# Altium footprint library ADC1175-50CIMTXNOPB.PcbLib: 3 footprints
Each footprint in its own frame and in the unit in brackets; x right, y up, seen from the top. Pads: shape width x height; smd on the part's side, far side on the other; paste and mask are expansions set on the pad; w line width, h text height; cw(c..) or ccw(c..) is an arc to the next point about the centre after c.
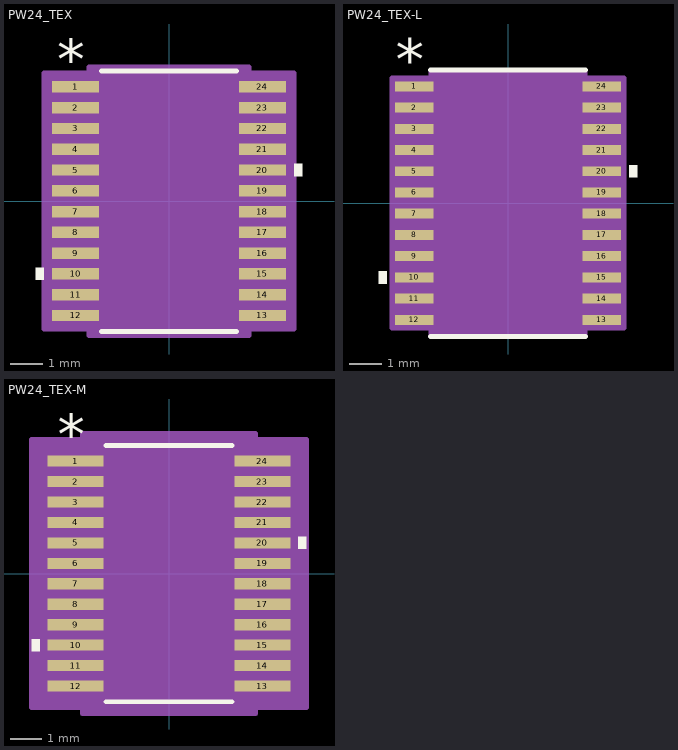
[diagram p0: the footprints below, top view; thin cyan lines are the x and y axes]

## PW24_TEX [mil]
pads (24):
  rect 58x14 smd paste+0 mask+0: 1(-115,140.75) 2(-115,115.16) 3(-115,89.57) 4(-115,63.98) 5(-115,38.39) 6(-115,12.8) 7(-115,-12.8) 8(-115,-38.39) 9(-115,-63.98) 10(-115,-89.57) 11(-115,-115.16) 12(-115,-140.75) 13(115,-140.75) 14(115,-115.16) 15(115,-89.57) 16(115,-63.98) 17(115,-38.39) 18(115,-12.8) 19(115,12.8) 20(115,38.39) 21(115,63.98) 22(115,89.57) 23(115,115.16) 24(115,140.75)
Top Overlay:
  region: -154,-82.07 -164,-82.07 -164,-97.07 -154,-97.07
  region: 154,45.89 164,45.89 164,30.89 154,30.89
  lines w6: -83,-160.5 83,-160.5 ; -83,160.5 83,160.5
  text "*" at -137.5,149.75 h50
  text ".Designator" at -137.5,-25 h50
Mechanical 13:
  lines w1: -12,155.5 ccw(c0,155.5) 12,155.5 ; -130,-146.75 -130,-134.75 -88.5,-134.75 -88.5,-146.75 -130,-146.75 ; -130,-121.16 -130,-109.16 -88.5,-109.16 -88.5,-121.16 -130,-121.16 ; -130,-95.57 -130,-83.57 -88.5,-83.57 -88.5,-95.57 -130,-95.57 ; -130,-69.98 -130,-57.98 -88.5,-57.98 -88.5,-69.98 -130,-69.98 ; -130,-44.39 -130,-32.39 -88.5,-32.39 -88.5,-44.39 -130,-44.39 ; -130,-18.8 -130,-6.8 -88.5,-6.8 -88.5,-18.8 -130,-18.8 ; -130,6.8 -130,18.8 -88.5,18.8 -88.5,6.8 -130,6.8 ; -130,32.39 -130,44.39 -88.5,44.39 -88.5,32.39 -130,32.39 ; -130,57.98 -130,69.98 -88.5,69.98 -88.5,57.98 -130,57.98 ; -130,83.57 -130,95.57 -88.5,95.57 -88.5,83.57 -130,83.57 ; -130,109.16 -130,121.16 -88.5,121.16 -88.5,109.16 -130,109.16 ; -130,134.75 -130,146.75 -88.5,146.75 -88.5,134.75 -130,134.75 ; -88.5,-155.5 88.5,-155.5 88.5,155.5 -88.5,155.5 -88.5,-155.5 ; 88.5,-146.75 88.5,-134.75 130,-134.75 130,-146.75 88.5,-146.75 ; 88.5,-121.16 88.5,-109.16 130,-109.16 130,-121.16 88.5,-121.16 ; 88.5,-95.57 88.5,-83.57 130,-83.57 130,-95.57 88.5,-95.57 ; 88.5,-69.98 88.5,-57.98 130,-57.98 130,-69.98 88.5,-69.98 ; 88.5,-44.39 88.5,-32.39 130,-32.39 130,-44.39 88.5,-44.39 ; 88.5,-18.8 88.5,-6.8 130,-6.8 130,-18.8 88.5,-18.8 ; 88.5,6.8 88.5,18.8 130,18.8 130,6.8 88.5,6.8 ; 88.5,32.39 88.5,44.39 130,44.39 130,32.39 88.5,32.39 ; 88.5,57.98 88.5,69.98 130,69.98 130,57.98 88.5,57.98 ; 88.5,83.57 88.5,95.57 130,95.57 130,83.57 88.5,83.57 ; 88.5,109.16 88.5,121.16 130,121.16 130,109.16 88.5,109.16 ; 88.5,134.75 88.5,146.75 130,146.75 130,134.75 88.5,134.75
  text ".Designator" at -137.5,-25 h50
  text "*" at -86,102.5 h50
Mechanical 15:
  region: -98.5,-157.75 -154,-157.75 -154,157.75 -98.5,157.75 -98.5,165.5 98.5,165.5 98.5,157.75 154,157.75 154,-157.75 98.5,-157.75 98.5,-165.5 -98.5,-165.5
  lines w6: -154,-157.75 -154,157.75 -98.5,157.75 -98.5,165.5 98.5,165.5 98.5,157.75 154,157.75 154,-157.75 98.5,-157.75 98.5,-165.5 -98.5,-165.5 -98.5,-157.75 -154,-157.75
3D body "PW24_TEX.step": height 47.09, standoff 0, extent -130,-155.51 130,155.51

## PW24_TEX-L [mil]
pads (24):
  rect 46x12 smd paste+0 mask+0: 1(-113,140.75) 2(-113,115.16) 3(-113,89.57) 4(-113,63.98) 5(-113,38.39) 6(-113,12.8) 7(-113,-12.8) 8(-113,-38.39) 9(-113,-63.98) 10(-113,-89.57) 11(-113,-115.16) 12(-113,-140.75) 13(113,-140.75) 14(113,-115.16) 15(113,-89.57) 16(113,-63.98) 17(113,-38.39) 18(113,-12.8) 19(113,12.8) 20(113,38.39) 21(113,63.98) 22(113,89.57) 23(113,115.16) 24(113,140.75)
Top Overlay:
  region: -146,-82.07 -156,-82.07 -156,-97.07 -146,-97.07
  region: 146,45.89 156,45.89 156,30.89 146,30.89
  lines w6: -93.5,-160.5 93.5,-160.5 ; -93.5,160.5 93.5,160.5
  text "*" at -135.5,147.75 h50
  text ".Designator" at -137.5,-25 h50
Mechanical 13:
  lines w1: -12,155.5 ccw(c0,155.5) 12,155.5 ; -130,-146.75 -130,-134.75 -88.5,-134.75 -88.5,-146.75 -130,-146.75 ; -130,-121.16 -130,-109.16 -88.5,-109.16 -88.5,-121.16 -130,-121.16 ; -130,-95.57 -130,-83.57 -88.5,-83.57 -88.5,-95.57 -130,-95.57 ; -130,-69.98 -130,-57.98 -88.5,-57.98 -88.5,-69.98 -130,-69.98 ; -130,-44.39 -130,-32.39 -88.5,-32.39 -88.5,-44.39 -130,-44.39 ; -130,-18.8 -130,-6.8 -88.5,-6.8 -88.5,-18.8 -130,-18.8 ; -130,6.8 -130,18.8 -88.5,18.8 -88.5,6.8 -130,6.8 ; -130,32.39 -130,44.39 -88.5,44.39 -88.5,32.39 -130,32.39 ; -130,57.98 -130,69.98 -88.5,69.98 -88.5,57.98 -130,57.98 ; -130,83.57 -130,95.57 -88.5,95.57 -88.5,83.57 -130,83.57 ; -130,109.16 -130,121.16 -88.5,121.16 -88.5,109.16 -130,109.16 ; -130,134.75 -130,146.75 -88.5,146.75 -88.5,134.75 -130,134.75 ; -88.5,-155.5 88.5,-155.5 88.5,155.5 -88.5,155.5 -88.5,-155.5 ; 88.5,-146.75 88.5,-134.75 130,-134.75 130,-146.75 88.5,-146.75 ; 88.5,-121.16 88.5,-109.16 130,-109.16 130,-121.16 88.5,-121.16 ; 88.5,-95.57 88.5,-83.57 130,-83.57 130,-95.57 88.5,-95.57 ; 88.5,-69.98 88.5,-57.98 130,-57.98 130,-69.98 88.5,-69.98 ; 88.5,-44.39 88.5,-32.39 130,-32.39 130,-44.39 88.5,-44.39 ; 88.5,-18.8 88.5,-6.8 130,-6.8 130,-18.8 88.5,-18.8 ; 88.5,6.8 88.5,18.8 130,18.8 130,6.8 88.5,6.8 ; 88.5,32.39 88.5,44.39 130,44.39 130,32.39 88.5,32.39 ; 88.5,57.98 88.5,69.98 130,69.98 130,57.98 88.5,57.98 ; 88.5,83.57 88.5,95.57 130,95.57 130,83.57 88.5,83.57 ; 88.5,109.16 88.5,121.16 130,121.16 130,109.16 88.5,109.16 ; 88.5,134.75 88.5,146.75 130,146.75 130,134.75 88.5,134.75
  text ".Designator" at -137.5,-25 h50
  text "*" at -86,102.5 h50
Mechanical 15:
  region: -92.5,-150.75 -140,-150.75 -140,150.75 -92.5,150.75 -92.5,159.5 92.5,159.5 92.5,150.75 140,150.75 140,-150.75 92.5,-150.75 92.5,-159.5 -92.5,-159.5
  lines w6: -140,-150.75 -140,150.75 -92.5,150.75 -92.5,159.5 92.5,159.5 92.5,150.75 140,150.75 140,-150.75 92.5,-150.75 92.5,-159.5 -92.5,-159.5 -92.5,-150.75 -140,-150.75
3D body "PW24_TEX.step": height 47.09, standoff 0, extent -130,-155.51 130,155.51

## PW24_TEX-M [mil]
pads (24):
  rect 70x14 smd paste+0 mask+0: 1(-117,140.75) 2(-117,115.16) 3(-117,89.57) 4(-117,63.98) 5(-117,38.39) 6(-117,12.8) 7(-117,-12.8) 8(-117,-38.39) 9(-117,-63.98) 10(-117,-89.57) 11(-117,-115.16) 12(-117,-140.75) 13(117,-140.75) 14(117,-115.16) 15(117,-89.57) 16(117,-63.98) 17(117,-38.39) 18(117,-12.8) 19(117,12.8) 20(117,38.39) 21(117,63.98) 22(117,89.57) 23(117,115.16) 24(117,140.75)
Top Overlay:
  region: -162,-82.07 -172,-82.07 -172,-97.07 -162,-97.07
  region: 162,45.89 172,45.89 172,30.89 162,30.89
  lines w6: -79,-160.5 79,-160.5 ; -79,160.5 79,160.5
  text "*" at -139.5,149.75 h50
  text ".Designator" at -137.5,-25 h50
Mechanical 13:
  lines w1: -12,155.5 ccw(c0,155.5) 12,155.5 ; -130,-146.75 -130,-134.75 -88.5,-134.75 -88.5,-146.75 -130,-146.75 ; -130,-121.16 -130,-109.16 -88.5,-109.16 -88.5,-121.16 -130,-121.16 ; -130,-95.57 -130,-83.57 -88.5,-83.57 -88.5,-95.57 -130,-95.57 ; -130,-69.98 -130,-57.98 -88.5,-57.98 -88.5,-69.98 -130,-69.98 ; -130,-44.39 -130,-32.39 -88.5,-32.39 -88.5,-44.39 -130,-44.39 ; -130,-18.8 -130,-6.8 -88.5,-6.8 -88.5,-18.8 -130,-18.8 ; -130,6.8 -130,18.8 -88.5,18.8 -88.5,6.8 -130,6.8 ; -130,32.39 -130,44.39 -88.5,44.39 -88.5,32.39 -130,32.39 ; -130,57.98 -130,69.98 -88.5,69.98 -88.5,57.98 -130,57.98 ; -130,83.57 -130,95.57 -88.5,95.57 -88.5,83.57 -130,83.57 ; -130,109.16 -130,121.16 -88.5,121.16 -88.5,109.16 -130,109.16 ; -130,134.75 -130,146.75 -88.5,146.75 -88.5,134.75 -130,134.75 ; -88.5,-155.5 88.5,-155.5 88.5,155.5 -88.5,155.5 -88.5,-155.5 ; 88.5,-146.75 88.5,-134.75 130,-134.75 130,-146.75 88.5,-146.75 ; 88.5,-121.16 88.5,-109.16 130,-109.16 130,-121.16 88.5,-121.16 ; 88.5,-95.57 88.5,-83.57 130,-83.57 130,-95.57 88.5,-95.57 ; 88.5,-69.98 88.5,-57.98 130,-57.98 130,-69.98 88.5,-69.98 ; 88.5,-44.39 88.5,-32.39 130,-32.39 130,-44.39 88.5,-44.39 ; 88.5,-18.8 88.5,-6.8 130,-6.8 130,-18.8 88.5,-18.8 ; 88.5,6.8 88.5,18.8 130,18.8 130,6.8 88.5,6.8 ; 88.5,32.39 88.5,44.39 130,44.39 130,32.39 88.5,32.39 ; 88.5,57.98 88.5,69.98 130,69.98 130,57.98 88.5,57.98 ; 88.5,83.57 88.5,95.57 130,95.57 130,83.57 88.5,83.57 ; 88.5,109.16 88.5,121.16 130,121.16 130,109.16 88.5,109.16 ; 88.5,134.75 88.5,146.75 130,146.75 130,134.75 88.5,134.75
  text ".Designator" at -137.5,-25 h50
  text "*" at -86,102.5 h50
Mechanical 15:
  region: -108.5,-167.75 -172,-167.75 -172,167.75 -108.5,167.75 -108.5,175.5 108.5,175.5 108.5,167.75 172,167.75 172,-167.75 108.5,-167.75 108.5,-175.5 -108.5,-175.5
  lines w6: -172,-167.75 -172,167.75 -108.5,167.75 -108.5,175.5 108.5,175.5 108.5,167.75 172,167.75 172,-167.75 108.5,-167.75 108.5,-175.5 -108.5,-175.5 -108.5,-167.75 -172,-167.75
3D body "PW24_TEX.step": height 47.09, standoff 0, extent -130,-155.51 130,155.51